# EAGLE library part HDSP4703 (library DISPLAY_HP)
LED DISPLAY 1-character dot matrix without decimal point
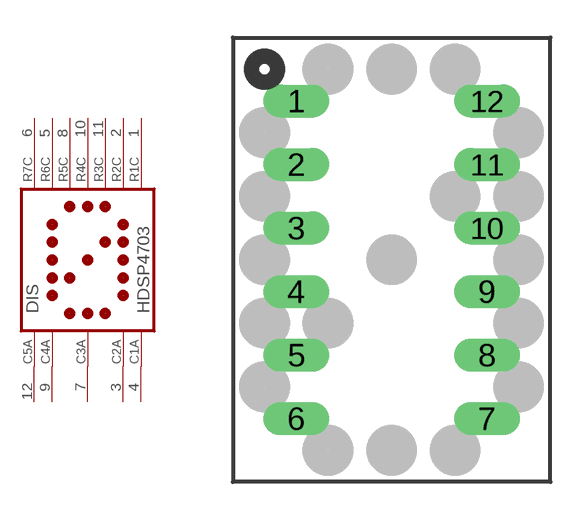
[diagram p6: symbol with the pads of HDSP47; footprint HDSP47]

Designator prefix DIS

## HDSP4703  [HDSP47]
1  R1C  pas
2  R2C  pas
3  C2A  pas
4  C1A  pas
5  R6C  pas
6  R7C  pas
7  C3A  pas
8  R5C  pas
9  C4A  pas
10  R4C  pas
11  R3C  pas
12  C5A  pas

## Footprint HDSP47 (pad centres in mm)
LED DISPLAY 17-mm 1 character dot matrix without decimal point
drill 0.813 long: 1 -3.81,6.35; 2 -3.81,3.81; 3 -3.81,1.27; 4 -3.81,-1.27; 5 -3.81,-3.81; 6 -3.81,-6.35; 7 3.81,-6.35; 8 3.81,-3.81; 9 3.81,-1.27; 10 3.81,1.27; 11 3.81,3.81; 12 3.81,6.35